# EAGLE library part TYPE-C (library Insight Solutions-Connectors)
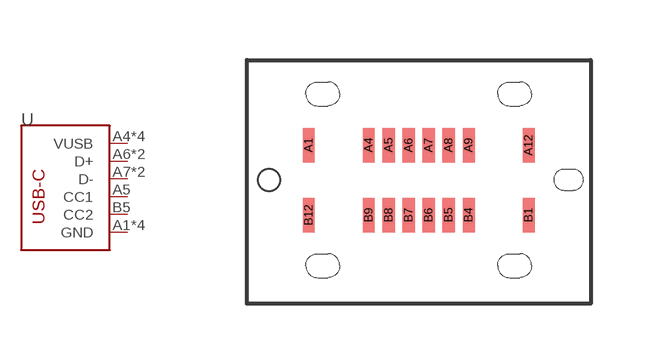
[diagram p5: symbol with the pads of TYPE-C-VERTICAL-MOUNT; footprint TYPE-C-VERTICAL-MOUNT]

Designator prefix U

## TYPE-C-VERTICAL-MOUNT  [TYPE-C-VERTICAL-MOUNT]
A1  GND  pas
A4  VUSB  pas
A5  CC1  pas
A6  D+  pas
A7  D-  pas
A9  VUSB  pas
A12  GND  pas
B1  GND  pas
B4  VUSB  pas
B5  CC2  pas
B6  D+  pas
B7  D-  pas
B9  VUSB  pas
B12  GND  pas

## Footprint TYPE-C-VERTICAL-MOUNT (pad centres in mm)
smd 0.3 x 0.87: A1 -2.75,0.865; A4 -1.25,0.865; A5 -0.75,0.865; A6 -0.25,0.865; A7 0.25,0.865; A8 0.75,0.865; A9 1.25,0.865; A12 2.75,0.865; B1 2.75,-0.885; B4 1.25,-0.885; B5 0.75,-0.885; B6 0.25,-0.885; B7 -0.25,-0.885; B8 -0.75,-0.885; B9 -1.25,-0.885; B12 -2.75,-0.885
hole 0.55 at -3.75,0